# EAGLE library part SI7006-A20-IM (library SiliconLabs)
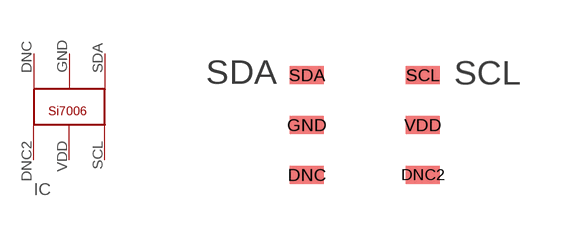
[diagram p0: symbol with the pads of SI7006-A20-IM; footprint SI7006-A20-IM]

Designator prefix IC

## SI7006-A20-IM  [SI7006-A20-IM]
DNC  DNC
DNC2  DNC2
GND  GND
SCL  SCL
SDA  SDA
VDD  VDD

## Footprint SI7006-A20-IM (pad centres in mm)
smd 0.85 x 0.45: DNC -1.45,-1.25; DNC2 1.45,-1.25; GND -1.45,0; SCL 1.45,1.25; SDA -1.45,1.25; VDD 1.45,0